# Altium footprint library Tranzistor.PcbLib: 240 footprints (part 1 of 15)
Each footprint in its own frame and in the unit in brackets; x right, y up, seen from the top. Pads: shape width x height; smd on the part's side, far side on the other; paste and mask are expansions set on the pad; w line width, h text height; cw(c..) or ccw(c..) is an arc to the next point about the centre after c.
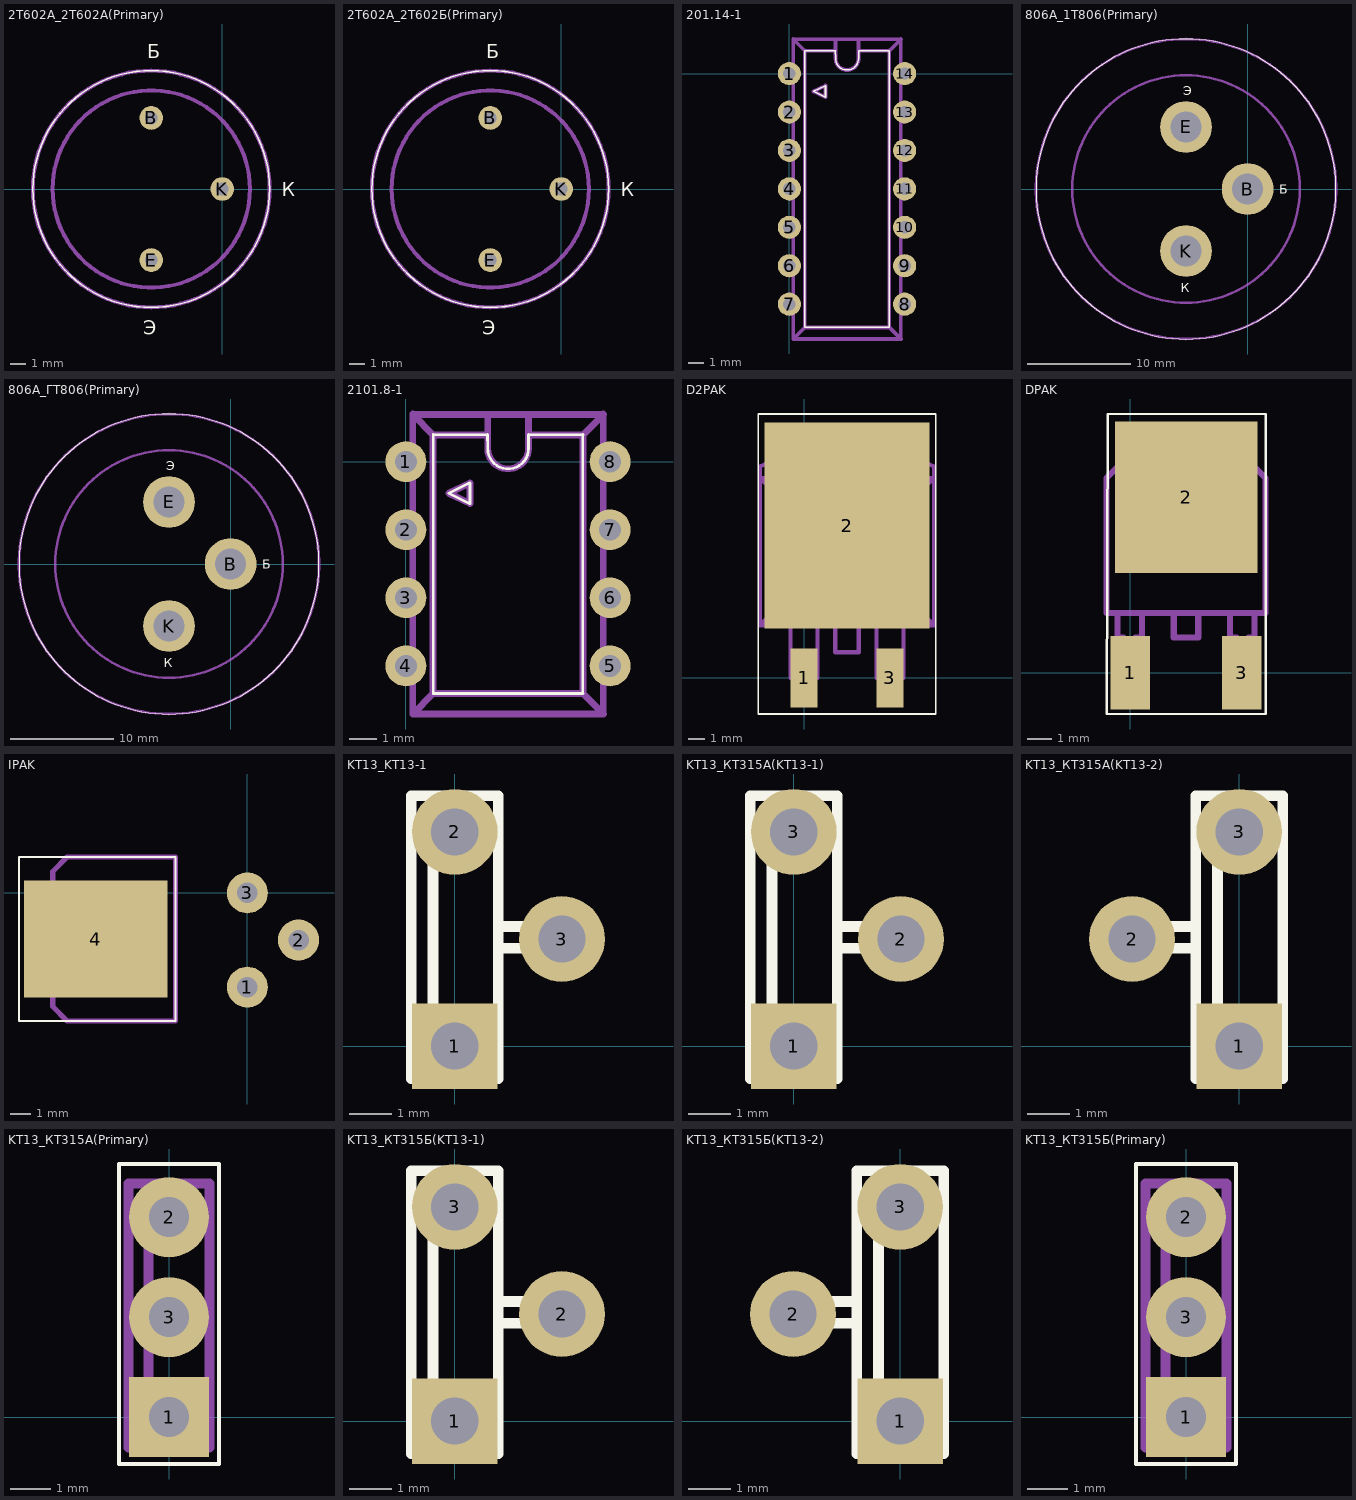
[diagram p0: the footprints below, top view; thin cyan lines are the x and y axes]

## 2T602A_2T602A(Primary) [mm]
pads (3):
  round 1.5 hole 0.8: B(-4.5,4.5) E(-4.5,-4.5) K(0,0)
Top Overlay:
  lines w0.1: -12,0 cw(c-4.5,0) 3,0 cw(c-4.5,0) -12,0
  text "К" at 3.75,-0.75 h1.5
  text "Б" at -4.75,8 h1.5
  text "Э" at -5,-9.5 h1.5
Mechanical 1:
  lines w0.25: -12,0 cw(c-4.5,0) 3,0 cw(c-4.5,0) -12,0 ; -10.75,0 cw(c-4.5,0) 1.75,0 cw(c-4.5,0) -10.75,0
  text "К" at 3.75,-0.75 h1.5
  text "Б" at -4.75,8 h1.5
  text "Э" at -5,-9.5 h1.5

## 2T602A_2T602Б(Primary) [mm]
pads (3):
  round 1.5 hole 0.8: B(-4.5,4.5) E(-4.5,-4.5) K(0,0)
Top Overlay:
  lines w0.1: -12,0 cw(c-4.5,0) 3,0 cw(c-4.5,0) -12,0
  text "К" at 3.75,-0.75 h1.5
  text "Б" at -4.75,8 h1.5
  text "Э" at -5,-9.5 h1.5
Mechanical 1:
  lines w0.25: -12,0 cw(c-4.5,0) 3,0 cw(c-4.5,0) -12,0 ; -10.75,0 cw(c-4.5,0) 1.75,0 cw(c-4.5,0) -10.75,0
  text "К" at 3.75,-0.75 h1.5
  text "Б" at -4.75,8 h1.5
  text "Э" at -5,-9.5 h1.5

## 201.14-1 [mm]
pads (14):
  round 1.5 hole 0.8: 1(0,0) 2(0,-2.5) 3(0,-5) 4(0,-7.5) 5(0,-10) 6(0,-12.5) 7(0,-15) 8(7.5,-15) 9(7.5,-12.5) 10(7.5,-10) 11(7.5,-7.5) 12(7.5,-5) 13(7.5,-2.5) 14(7.5,0)
Top Overlay:
  lines w0.1: 1,-16.5 1,1.5 ; 1.004,-16.516 6.504,-16.516 ; 1.004,1.484 3.004,1.484 ; 3,1.5 3.004,0.984 ccw(c3.754,0.984) 4.504,0.984 4.5,1.5 ; 4.504,1.484 6.504,1.484 ; 6.5,-16.5 6.5,1.5 ; 1.576,-1.161 2.352,-1.541 2.352,-0.781 1.576,-1.161
Mechanical 1:
  lines w0.25: -0.2,0 0,0 ; 0.004,-15.316 -0.219,-15.316 -0.219,-15.016 -0.219,-14.716 0.004,-14.716 ; 0.004,-12.816 -0.219,-12.816 -0.219,-12.516 -0.219,-12.216 0.004,-12.216 ; 0.004,-10.316 -0.219,-10.316 -0.219,-10.016 -0.219,-9.716 0.004,-9.716 ; 0.004,-7.816 -0.219,-7.816 -0.219,-7.516 -0.219,-7.216 0.004,-7.216 ; 0.004,-5.316 -0.219,-5.316 -0.219,-5.016 -0.219,-4.716 0.004,-4.716 ; 0.004,-2.816 -0.219,-2.816 -0.219,-2.516 -0.219,-2.216 0.004,-2.216 ; 0.004,-0.316 -0.219,-0.316 -0.219,-0.016 -0.219,0.284 0.004,0.284 ; 0.25,-17.25 0.25,2.25 ; 0.254,-15.616 0.004,-15.616 0.004,-14.416 0.254,-14.416 ; 0.254,-13.116 0.004,-13.116 0.004,-11.916 0.254,-11.916 ; 0.254,-10.616 0.004,-10.616 0.004,-9.416 0.254,-9.416 ; 0.254,-8.116 0.004,-8.116 0.004,-6.916 0.254,-6.916 ; 0.254,-5.616 0.004,-5.616 0.004,-4.416 0.254,-4.416 ; 0.254,-3.116 0.004,-3.116 0.004,-1.916 0.254,-1.916 ; 0.254,-0.616 0.004,-0.616 0.004,0.584 0.254,0.584 ; 1,-16.5 1,1.5 ; 3.004,1.484 1.004,1.484 0.254,2.234 7.254,2.234 6.504,1.484 4.504,1.484 ; 3.004,2.234 3.004,0.984 ccw(c3.754,0.984) 4.504,0.984 4.504,2.234 ; 6.5,-16.5 6.5,1.5 ; 7.25,-17.25 7.25,2.25 ; 7.254,-15.616 7.504,-15.616 7.504,-14.416 7.254,-14.416 ; 7.254,-13.116 7.504,-13.116 7.504,-11.916 7.254,-11.916 ; 7.254,-10.616 7.504,-10.616 7.504,-9.416 7.254,-9.416 ; 7.254,-8.116 7.504,-8.116 7.504,-6.916 7.254,-6.916 ; 7.254,-5.616 7.504,-5.616 7.504,-4.416 7.254,-4.416 ; 7.254,-3.116 7.504,-3.116 7.504,-1.916 7.254,-1.916 ; 7.254,-0.616 7.504,-0.616 7.504,0.584 7.254,0.584 ; 7.504,-15.316 7.727,-15.316 7.727,-15.016 7.727,-14.716 7.504,-14.716 ; 7.504,-12.816 7.727,-12.816 7.727,-12.516 7.727,-12.216 7.504,-12.216 ; 7.504,-10.316 7.727,-10.316 7.727,-10.016 7.727,-9.716 7.504,-9.716 ; 7.504,-7.816 7.727,-7.816 7.727,-7.516 7.727,-7.216 7.504,-7.216 ; 7.504,-5.316 7.727,-5.316 7.727,-5.016 7.727,-4.716 7.504,-4.716 ; 7.504,-2.816 7.727,-2.816 7.727,-2.516 7.727,-2.216 7.504,-2.216 ; 7.504,-0.316 7.727,-0.316 7.727,-0.016 7.727,0.284 7.504,0.284 ; 0.254,-17.266 7.254,-17.266 6.504,-16.516 1.004,-16.516 0.254,-17.266 ; 1.576,-1.161 2.352,-1.541 2.352,-0.781 1.576,-1.161

## 806A_1Т806(Primary) [mm]
pads (3):
  round 5 hole 3: B(0,0) E(-5.96,6) K(-5.96,-6)
Top Overlay:
  lines w0.1: -5.96,-14.5 ccw(c-5.96,0) -5.96,14.5 ccw(c-5.96,0) -5.96,-14.5
  text "Э" at -6.21,8.75 h1.5
  text "Б" at 3.04,-0.75 h1.5
  text "К" at -6.46,-10.25 h1.5
Mechanical 1:
  lines w0.25: -16.96,0 cw(c-5.96,0) 5.04,0 cw(c-5.96,0) -16.96,0 ; -5.96,-14.5 ccw(c-5.96,0) -5.96,14.5 ccw(c-5.96,0) -5.96,-14.5
  text "Э" at -6.21,8.75 h1.5
  text "Б" at 3.04,-0.75 h1.5
  text "К" at -6.46,-10.25 h1.5

## 806A_ГТ806(Primary) [mm]
pads (3):
  round 5 hole 3: B(0,0) E(-5.96,6) K(-5.96,-6)
Top Overlay:
  lines w0.1: -5.96,-14.5 ccw(c-5.96,0) -5.96,14.5 ccw(c-5.96,0) -5.96,-14.5
  text "Э" at -6.21,8.75 h1.5
  text "Б" at 3.04,-0.75 h1.5
  text "К" at -6.46,-10.25 h1.5
Mechanical 1:
  lines w0.25: -16.96,0 cw(c-5.96,0) 5.04,0 cw(c-5.96,0) -16.96,0 ; -5.96,-14.5 ccw(c-5.96,0) -5.96,14.5 ccw(c-5.96,0) -5.96,-14.5
  text "Э" at -6.21,8.75 h1.5
  text "Б" at 3.04,-0.75 h1.5
  text "К" at -6.46,-10.25 h1.5

## 2101.8-1 [mm]
pads (8):
  round 1.5 hole 0.8: 1(0,0) 2(0,-2.5) 3(0,-5) 4(0,-7.5) 5(7.5,-7.5) 6(7.5,-5) 7(7.5,-2.5) 8(7.5,0)
Top Overlay:
  lines w0.1: 1,-8.5 1,1 ; 1.004,-8.516 6.504,-8.516 ; 1.004,0.984 3.004,0.984 ; 3,1 3.004,0.484 ccw(c3.754,0.484) 4.504,0.484 4.5,1 ; 4.504,0.984 6.504,0.984 ; 6.5,-8.5 6.5,1 ; 1.576,-1.161 2.352,-1.541 2.352,-0.781 1.576,-1.161
Mechanical 1:
  lines w0.25: -0.2,0 0,0 ; 0.004,-7.816 -0.219,-7.816 -0.219,-7.516 -0.219,-7.216 0.004,-7.216 ; 0.004,-5.316 -0.219,-5.316 -0.219,-5.016 -0.219,-4.716 0.004,-4.716 ; 0.004,-2.816 -0.219,-2.816 -0.219,-2.516 -0.219,-2.216 0.004,-2.216 ; 0.004,-0.316 -0.219,-0.316 -0.219,-0.016 -0.219,0.284 0.004,0.284 ; 0.25,-9.25 0.25,1.75 ; 0.254,-8.116 0.004,-8.116 0.004,-6.916 0.254,-6.916 ; 0.254,-5.616 0.004,-5.616 0.004,-4.416 0.254,-4.416 ; 0.254,-3.116 0.004,-3.116 0.004,-1.916 0.254,-1.916 ; 0.254,-0.616 0.004,-0.616 0.004,0.584 0.254,0.584 ; 1,-8.5 1,1 ; 3.004,0.984 1.004,0.984 0.254,1.734 7.254,1.734 6.504,0.984 4.504,0.984 ; 3.004,1.734 3.004,0.484 ccw(c3.754,0.484) 4.504,0.484 4.504,1.734 ; 6.5,-8.5 6.5,1 ; 7.25,-9.25 7.25,1.75 ; 7.254,-8.116 7.504,-8.116 7.504,-6.916 7.254,-6.916 ; 7.254,-5.616 7.504,-5.616 7.504,-4.416 7.254,-4.416 ; 7.254,-3.116 7.504,-3.116 7.504,-1.916 7.254,-1.916 ; 7.254,-0.616 7.504,-0.616 7.504,0.584 7.254,0.584 ; 7.504,-7.816 7.727,-7.816 7.727,-7.516 7.727,-7.216 7.504,-7.216 ; 7.504,-5.316 7.727,-5.316 7.727,-5.016 7.727,-4.716 7.504,-4.716 ; 7.504,-2.816 7.727,-2.816 7.727,-2.516 7.727,-2.216 7.504,-2.216 ; 7.504,-0.316 7.727,-0.316 7.727,-0.016 7.727,0.284 7.504,0.284 ; 0.254,-9.266 7.254,-9.266 6.504,-8.516 1.004,-8.516 0.254,-9.266 ; 1.576,-1.161 2.352,-1.541 2.352,-0.781 1.576,-1.161

## D2PAK [mm]
pads (3):
  rect 1.6x3.5 smd: 1(0,0) 3(5.08,0)
  rect 9.75x12.2 smd: 2(2.54,9.017)
Top Overlay:
  lines w0.1: -2.71,-2.13 7.79,-2.13 7.79,15.62 -2.71,15.62 -2.71,-2.13
Mechanical 1:
  lines w0.25: -0.81,3.12 -0.81,0.02 0.79,0.02 0.79,3.12 ; -0.56,0.02 -0.56,-0.83 ; 0.54,0.02 0.54,-0.83 ; 1.84,3.12 1.84,1.52 2.54,1.52 3.24,1.52 3.24,3.12 ; 4.29,3.12 4.29,0.02 5.89,0.02 5.89,3.12 ; 4.54,0.02 4.54,-0.83 ; 5.64,0.02 5.64,-0.83 ; -2.61,3.12 7.69,3.12 ; -2.61,3.12 -2.61,11.82 ; -2.61,3.12 -2.11,3.62 ; -2.61,11.82 7.69,11.82 ; -2.61,11.82 -2.11,11.32 ; -2.61,11.82 -2.61,12.52 -1.01,13.22 6.09,13.22 7.69,12.52 7.69,11.82 ; -2.11,3.62 7.19,3.62 ; -2.11,3.62 -2.11,11.32 ; -2.11,11.32 7.19,11.32 ; -0.56,-0.83 -0.56,-1.48 0.54,-1.48 0.54,-0.83 ; -0.56,-0.83 0.54,-0.83 ; 4.54,-0.83 4.54,-1.48 5.64,-1.48 5.64,-0.83 ; 4.54,-0.83 5.64,-0.83 ; 7.19,3.62 7.19,11.32 ; 7.19,3.62 7.69,3.12 ; 7.19,11.32 7.69,11.82 ; 7.69,3.12 7.69,11.82

## DPAK [mm]
pads (3):
  rect 1.6x3 smd: 1(0,0) 3(4.56,0)
  rect 5.8x6.2 smd: 2(2.29,7.17)
Top Overlay:
  lines w0.1: -0.96,-1.68 5.54,-1.68 5.54,10.57 -0.91,10.57 -0.96,-1.68
Mechanical 1:
  lines w0.1: -0.52,1.45 0.48,1.45 ; -0.27,-0.05 0.23,-0.05 ; 4.08,1.45 5.08,1.45 ; 4.33,-0.05 4.83,-0.05
  lines w0.25: -0.52,2.45 -0.52,1.45 -0.27,1.45 -0.27,-0.8 0.23,-0.8 0.23,1.45 0.48,1.45 0.48,2.45 ; -0.22,8.45 -0.22,8.95 0.03,9.2 1.53,9.2 1.53,8.95 3.03,8.95 3.03,9.2 4.53,9.2 4.78,8.95 4.78,8.45 ; 1.78,2.45 1.78,1.45 2.78,1.45 2.78,2.45 ; 4.08,2.45 4.08,1.45 4.33,1.45 4.33,-0.8 4.83,-0.8 4.83,1.45 5.08,1.45 5.08,2.45 ; -0.97,2.45 5.53,2.45 5.53,7.95 5.03,8.45 -0.47,8.45 -0.97,7.95 -0.97,2.45

## IPAK [mm]
pads (4):
  round 2 hole 1: 1(0,-4.6) 2(2.5,-2.3) 3(0,0)
  rect 7x5.7 smd: 4(-7.4,-2.25)
Top Overlay:
  lines w0.1: -11.15,-6.25 -7.5,-6.25 -3.5,-6.25 -3.5,1.75 -11.15,1.75 -11.15,-6.25
Mechanical 1:
  lines w0.25: -9.5,-4.85 -9.95,-4.85 -10.55,-4.25 -10.55,-3.4 -10.55,-3.15 -9.95,-3.15 -9.95,-2.25 -9.95,-1.35 -10.55,-1.35 -10.55,-1.1 -10.55,-0.25 -9.95,0.35 -9.5,0.35 ; -9.5,-5.55 -9.5,1.05 -8.8,1.75 -3.5,1.75 -3.5,-6.25 -8.8,-6.25 -9.5,-5.55

## KT13_KT13-1 [mm]
pads (3):
  rect 2x2 hole 1.1: 1(0,0)
  round 2 hole 1.1: 2(0,5) 3(2.5,2.5)
Top Overlay:
  lines w0.25: -0.508,-0.762 -0.508,5.842 ; 1.016,2.286 2.667,2.286 2.667,2.794 1.016,2.794 ; -1.016,-0.762 1.016,-0.762 1.016,5.842 -1.016,5.842 -1.016,-0.762

## KT13_КТ315А(KT13-1) [mm]
pads (3):
  rect 2x2 hole 1.1: 1(0,0)
  round 2 hole 1.1: 2(2.5,2.5) 3(0,5)
Top Overlay:
  lines w0.25: -0.508,-0.762 -0.508,5.842 ; 1.016,2.286 2.667,2.286 2.667,2.794 1.016,2.794 ; -1.016,-0.762 1.016,-0.762 1.016,5.842 -1.016,5.842 -1.016,-0.762

## KT13_КТ315А(KT13-2) [mm]
pads (3):
  rect 2x2 hole 1.1: 1(0,0)
  round 2 hole 1.1: 2(-2.5,2.5) 3(0,5)
Top Overlay:
  lines w0.25: -1.016,2.286 -2.667,2.286 -2.667,2.794 -1.016,2.794 ; -0.508,-0.762 -0.508,5.842 ; -1.016,-0.762 1.016,-0.762 1.016,5.842 -1.016,5.842 -1.016,-0.762

## KT13_КТ315А(Primary) [mm]
pads (3):
  rect 2x2 hole 1: 1(0,0)
  round 2 hole 1: 2(0,5) 3(0,2.5)
Top Overlay:
  lines w0.1: -1.25,-1.17 1.25,-1.17 1.25,6.33 -1.25,6.33 -1.25,-1.17
Mechanical 1:
  lines w0.25: -0.508,-0.762 -0.508,5.842 ; -1.016,-0.762 1.016,-0.762 1.016,5.842 -1.016,5.842 -1.016,-0.762
  text "Б" at -2.25,4.58 h1
  text "К" at -2.25,2.08 h1
  text "Э" at -2.25,-0.67 h1

## KT13_КТ315Б(KT13-1) [mm]
pads (3):
  rect 2x2 hole 1.1: 1(0,0)
  round 2 hole 1.1: 2(2.5,2.5) 3(0,5)
Top Overlay:
  lines w0.25: -0.508,-0.762 -0.508,5.842 ; 1.016,2.286 2.667,2.286 2.667,2.794 1.016,2.794 ; -1.016,-0.762 1.016,-0.762 1.016,5.842 -1.016,5.842 -1.016,-0.762

## KT13_КТ315Б(KT13-2) [mm]
pads (3):
  rect 2x2 hole 1.1: 1(0,0)
  round 2 hole 1.1: 2(-2.5,2.5) 3(0,5)
Top Overlay:
  lines w0.25: -1.016,2.286 -2.667,2.286 -2.667,2.794 -1.016,2.794 ; -0.508,-0.762 -0.508,5.842 ; -1.016,-0.762 1.016,-0.762 1.016,5.842 -1.016,5.842 -1.016,-0.762

## KT13_КТ315Б(Primary) [mm]
pads (3):
  rect 2x2 hole 1: 1(0,0)
  round 2 hole 1: 2(0,5) 3(0,2.5)
Top Overlay:
  lines w0.1: -1.25,-1.17 1.25,-1.17 1.25,6.33 -1.25,6.33 -1.25,-1.17
Mechanical 1:
  lines w0.25: -0.508,-0.762 -0.508,5.842 ; -1.016,-0.762 1.016,-0.762 1.016,5.842 -1.016,5.842 -1.016,-0.762
  text "Б" at -2.25,4.58 h1
  text "К" at -2.25,2.08 h1
  text "Э" at -2.25,-0.67 h1